# EAGLE library part 620310124022 (library Wuerth_Elektronik_eiCan_Wire_to_Board_Connectors v1.2)
WR-WTB 2.00mm SMT Male Vertical Shrouded Header, 10 Pins
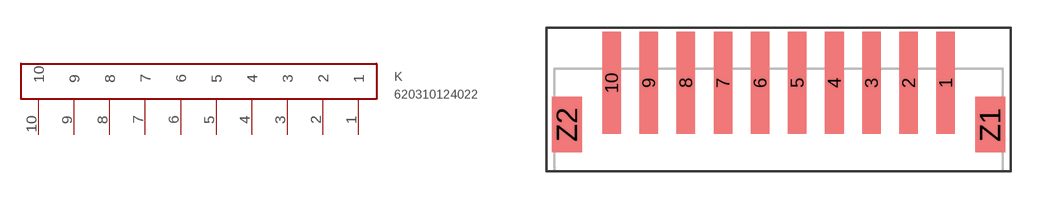
[diagram p39: symbol with the pads of 620310124022; footprint 620310124022]

Designator prefix K

## 620310124022  [620310124022]
1  1
2  2
3  3
4  4
5  5
6  6
7  7
8  8
9  9
10  10

## Footprint 620310124022 (pad centres in mm)
WR-WTB 2.00mm SMT Male Vertical Shrouded Header, 10 Pins
smd 1 x 5.5: 1 1,0; 2 -1,0; 3 -3,0; 4 -5,0; 5 -7,0; 6 -9,0; 7 -11,0; 8 -13,0; 9 -15,0; 10 -17,0
smd 1.6 x 3: Z1 3.4,-2.25; Z2 -19.4,-2.25